# Altium footprint library PCB.PcbLib: 99 footprints (part 7 of 7)
Each footprint in its own frame and in the unit in brackets; x right, y up, seen from the top. Pads: shape width x height; smd on the part's side, far side on the other; paste and mask are expansions set on the pad; w line width, h text height; cw(c..) or ccw(c..) is an arc to the next point about the centre after c.
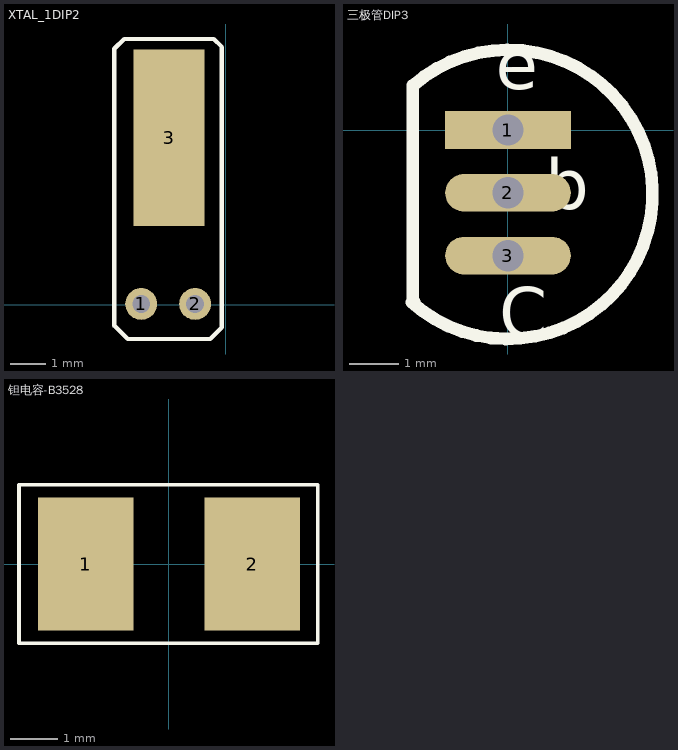
[diagram p6: the footprints below, top view; thin cyan lines are the x and y axes]

## XTAL_1DIP2 [mm] "2*6mm 圆柱晶体"
height 9
pads (3):
  round 0.9 hole 0.5: 1(-2.388,0.025) 2(-0.864,0.025)
  rect 2x5 smd: 3(-1.6,4.724)
Top Overlay:
  lines w0.127: -3.15,-0.584 -2.769,-0.965 -0.432,-0.965 -0.102,-0.635 -0.102,7.29 -0.33,7.518 -2.87,7.518 -3.15,7.239 -3.15,-0.584
3D body "osc-圆柱-32_768K.STEP": height 2, standoff 0, extent -2.61,-0.063 -0.61,7.276

## 三极管DIP3 [mil]
pads (3):
  rect 100x30 hole 25: 1(0,0)
  oval 100x30 hole 25: 2(0,-50) 3(0,-100)
Top Overlay:
  lines w10: -76.77,-137.06 ccw(c0.01,-51.25) -75.79,35.43 -75.79,-135.83 -74.8,-136.81
  text "e" at -9.84,32.48 h40
  text "C" at -6.89,-165.35 h40
  text "b" at 29.53,-62.99 h40

## 钽电容-B3528 [mm]
pads (2):
  rect 2x2.8 smd: 1(-1.75,0) 2(1.75,0)
Top Overlay:
  lines w0.076: -3.15,-1.667 3.124,-1.667 3.124,1.667 -3.15,1.667 -3.15,0.7 -3.15,-1.667